# Altium footprint library T-Type Converter.PcbLib: 34 footprints (part 1 of 3)
Each footprint in its own frame and in the unit in brackets; x right, y up, seen from the top. Pads: shape width x height; smd on the part's side, far side on the other; paste and mask are expansions set on the pad; w line width, h text height; cw(c..) or ccw(c..) is an arc to the next point about the centre after c.
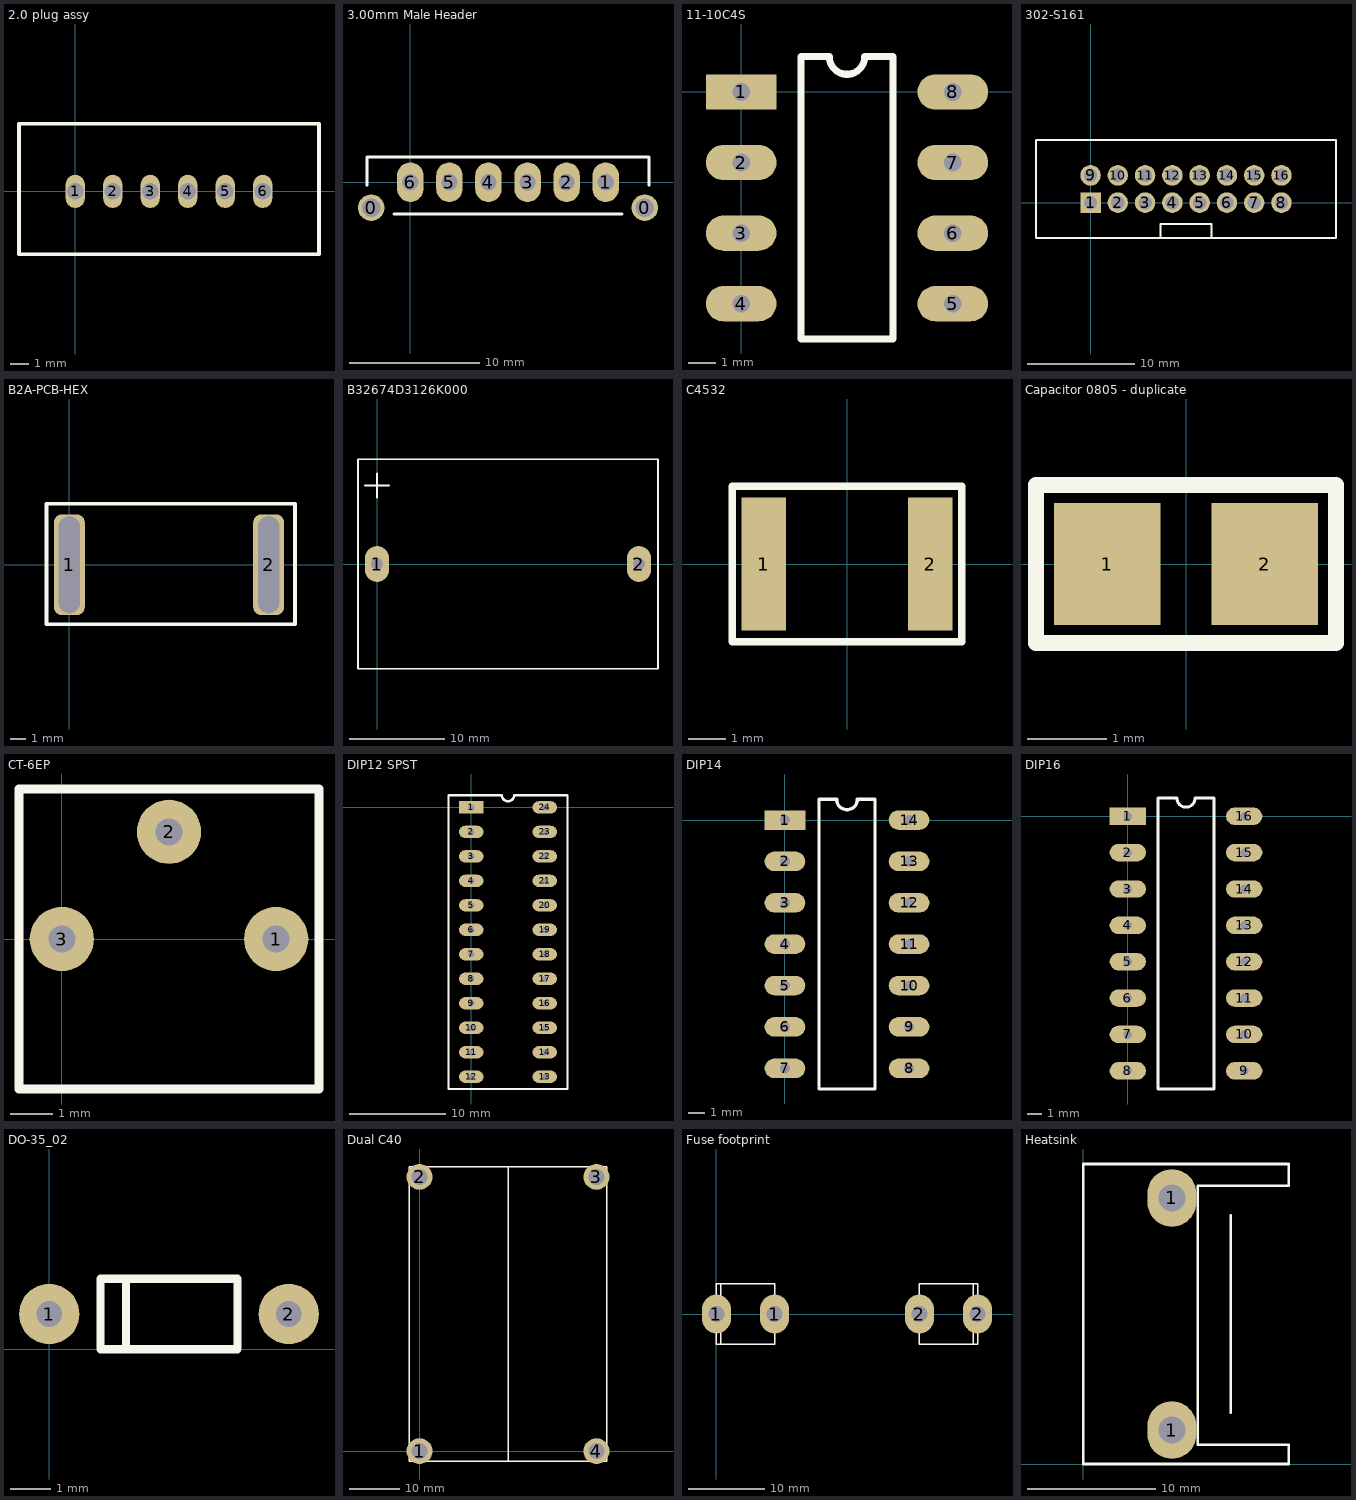
[diagram p0: the footprints below, top view; thin cyan lines are the x and y axes]

## 2.0 plug assy [mil] "6 pin microclasp header"
pads (6):
  oval 40x70 hole 35: 1(0,0) 2(78.74,0) 3(157.48,0) 4(236.22,0) 5(314.96,0) 6(393.7,0)
Top Overlay:
  lines w7.87: -118.11,-131.89 -118.11,-122.05 -118.11,9.84 -118.11,141.73 511.81,141.73 511.81,131.89 511.81,0 511.81,-131.89 -118.11,-131.89

## 3.00mm Male Header [mil] "6 pin header"
pads (8):
  round 80 hole 57: 0(-118.11,-77.17) 0(708.66,-77.17)
  oval 80x120 hole 49: 1(590.55,0) 2(472.44,0) 3(354.33,0) 4(236.22,0) 5(118.11,0) 6(0,0)
Top Overlay:
  lines w7.87: -130.91,-9.84 -130.91,75.98 295.28,75.98 721.46,75.98 721.46,-9.84 ; -49.21,-96.06 295.28,-96.06 639.76,-96.06

## 11-10C4S [mil]
pads (8):
  rect 100x50 hole 25: 1(0,0)
  oval 100x50 hole 25: 2(0,-100) 3(0,-200) 4(0,-300) 5(300,-300) 6(300,-200) 7(300,-100) 8(300,0)
Top Overlay:
  lines w10: 85,-350 85,50 125,50 ccw(c150,50) 175,50 215,50 215,-350 85,-350

## 302-S161 [mil] "16 pin connector"
pads (16):
  rect 75x75 hole 49: 1(0,0)
  round 75 hole 49: 2(100,0) 3(200,0) 4(300,0) 5(400,0) 6(500,0) 7(600,0) 8(700,0) 9(0,100) 10(100,100) 11(200,100) 12(300,100) 13(400,100) 14(500,100) 15(600,100) 16(700,100)
Top Overlay:
  lines w7.87: 255.91,-129.13 255.91,-78.74 350,-78.74 444.09,-78.74 444.09,-129.13 ; -200,-129.13 900,-129.13 900,229.13 -200,229.13 -200,-129.13

## B2A-PCB-HEX [mil] "B2A-PCB-HEX Lug"
height 560
pads (2):
  rrect50% 80x260 hole 55 slot 250 at 90 deg: 1(0,0) 2(515,0)
Top Overlay:
  lines w10: -59.06,-153.54 582.68,-153.54 582.68,157.48 -59.06,157.48 -59.06,-153.54
3D body "-STP FILES-B2A-PCB-HEX.stp": height 611, standoff -158, extent -25.5,-210 539.5,211

## B32674D3126K000 [mil] "Film cap"
height 1437.01
pads (2):
  oval 100x150 hole 49: 1(0,0) 2(1082.68,0)
Top Overlay:
  lines w7.87: -49.21,324.8 49.21,324.8 ; 0,275.59 0,374.02 ; -78.74,-433.07 1161.42,-433.07 1161.42,433.07 -78.74,433.07 -78.74,-433.07

## C4532 [mm]
pads (2):
  rect 1.2x3.6 smd: 1(-2.25,0) 2(2.25,0)
Top Overlay:
  lines w0.2: -3.1,-2.1 -3.1,0 -3.1,2.1 3.1,2.1 3.1,-2.1 -3.1,-2.1

## Capacitor 0805 - duplicate [mm]
pads (2):
  rect 1.35x1.55 smd: 1(-1,0) 2(1,0)
Top Overlay:
  lines w0.2: -1.9,-1 -1.9,0 -1.9,1 1.9,1 1.9,-1 -1.9,-1

## CT-6EP [mm] "pot"
pads (3):
  round 1.5 hole 0.635: 1(5,0) 2(2.5,2.5) 3(0,0)
Top Overlay:
  lines w0.2: -0.8,-3.5 -1,-3.5 ; -1,-3.5 6,-3.5 6,3.5 -1,3.5 -1,0 -1,-3.5

## DIP12 SPST [mil]
pads (24):
  rect 100x50 hole 25: 1(0,0)
  oval 100x50 hole 25: 2(0,-100) 3(0,-200) 4(0,-300) 5(0,-400) 6(0,-500) 7(0,-600) 8(0,-700) 9(0,-800) 10(0,-900) 11(0,-1000) 12(0,-1100) 13(300,-1100) 14(300,-1000) 15(300,-900) 16(300,-800) 17(300,-700) 18(300,-600) 19(300,-500) 20(300,-400) 21(300,-300) 22(300,-200) 23(300,-100) 24(300,0)
Top Overlay:
  lines w10: -93,-1150 -93,50 125,50 ccw(c150,50) 175,50 393,50 393,-1150 -90.55,-1150

## DIP14 [mm]
pads (14):
  rect 2.5x1.2 hole 0.635: 1(0,0)
  oval 2.5x1.2 hole 0.635: 2(0,-2.54) 3(0,-5.08) 4(0,-7.62) 5(0,-10.16) 6(0,-12.7) 7(0,-15.24) 8(7.62,-15.24) 9(7.62,-12.7) 10(7.62,-10.16) 11(7.62,-7.62) 12(7.62,-5.08) 13(7.62,-2.54) 14(7.62,0)
Top Overlay:
  lines w0.2: 2.085,-16.51 5.535,-16.51 5.535,1.27 4.445,1.27 cw(c3.81,1.27) 3.175,1.27 2.085,1.27 2.085,-16.51

## DIP16 [mm]
pads (16):
  rect 2.5x1.2 hole 0.6: 1(0,0)
  oval 2.5x1.2 hole 0.6: 2(0,-2.5) 3(0,-5) 4(0,-7.5) 5(0,-10) 6(0,-12.5) 7(0,-15) 8(0,-17.5) 9(8,-17.5) 10(8,-15) 11(8,-12.5) 12(8,-10) 13(8,-7.5) 14(8,-5) 15(8,-2.5) 16(8,0)
Top Overlay:
  lines w0.2: 2.085,-18.75 5.915,-18.75 5.915,1.25 4.625,1.25 cw(c4,1.25) 3.375,1.25 2.085,1.25 2.085,-3.75 2.085,-13.75 2.085,-18.75

## DO-35_02 [mm]
pads (2):
  round 1.5 hole 0.635: 1(0,0.875) 2(5.94,0.875)
Top Overlay:
  lines w0.2: 1.905,0 1.905,1.75 ; 1.905,1.75 1.778,1.75 1.905,1.75 ; 1.27,0 4.67,0 4.67,1.75 1.27,1.75 1.27,0

## Dual C40 [mil] "Heat sink for TO 247 case"
height 1820
pads (4):
  round 200 hole 122: 1(0,0) 2(0,2123) 3(1370,2123) 4(1370,0)
Top Overlay:
  lines w10: 685,-80 685,2203 ; -80,-80 -80,2203 1450,2203 1450,-10 1450,-80 -80,-80

## Fuse footprint [mil]
pads (4):
  oval 150x200 hole 83: 1(0,0) 1(300,0) 2(1047,0) 2(1347,0)
Top Overlay:
  lines w7.87: 0,0 0,155 300,155 ; 0,7.87 0,-155 300,-155 ; 23.62,-155 23.62,155 ; 1323.38,-155 1323.38,155 ; 1347,-7.87 1347,155 1047,155 ; 1347,0 1347,-155 1047,-155 ; 300,-155 300,155 ; 300,-155 300,155 ; 1047,-155 1047,155 ; 1047,-155 1047,155

## Heatsink [mm] "WA-T264-101E"
height 32
pads (2):
  oval 3.81x4.5 hole 2.108: 1(6.9,2.65) 1(6.9,20.75)
Top Overlay:
  lines w0.2: 11.5,4 11.5,19.4 ; 0,0 16,0 16,1.5 8.9,1.5 8.9,21.7 16,21.7 16,23.4 0,23.4 0,0